# Altium footprint library custLib.PcbLib: 48 footprints (part 3 of 3)
Each footprint in its own frame and in the unit in brackets; x right, y up, seen from the top. Pads: shape width x height; smd on the part's side, far side on the other; paste and mask are expansions set on the pad; w line width, h text height; cw(c..) or ccw(c..) is an arc to the next point about the centre after c.
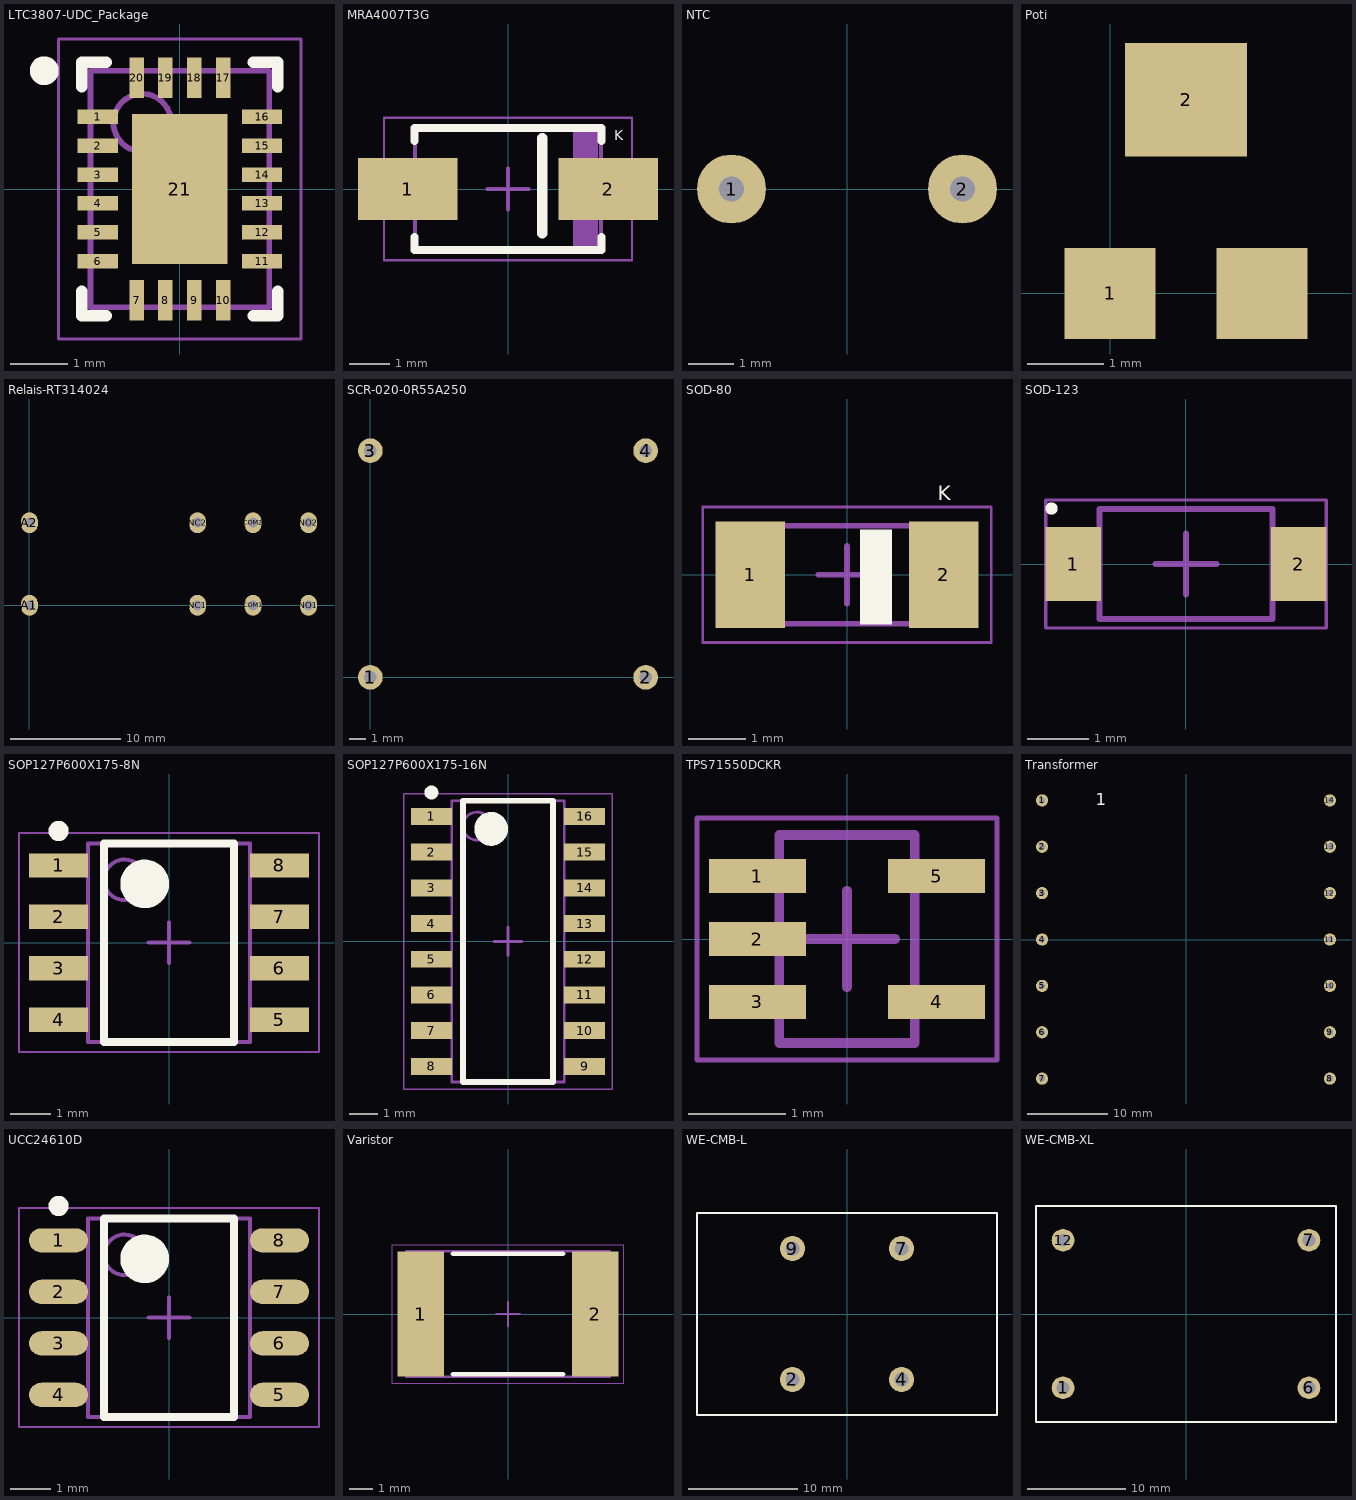
[diagram p2: the footprints below, top view; thin cyan lines are the x and y axes]

## LTC3807-UDC_Package [mm] "QFN, 20-Leads, Body 3,00x4,00mm, Pitch 0,50mm, Thermal Pad 1,50x2,60mm, IPC Medium Density"
height 0.75
pads (21):
  rect 0.7x0.25 smd: 1(-1.425,1.25) 2(-1.425,0.75) 3(-1.425,0.25) 4(-1.425,-0.25) 5(-1.425,-0.75) 6(-1.425,-1.25) 11(1.425,-1.25) 12(1.425,-0.75) 13(1.425,-0.25) 14(1.425,0.25) 15(1.425,0.75) 16(1.425,1.25)
  rect 0.25x0.7 smd: 7(-0.75,-1.925) 8(-0.25,-1.925) 9(0.25,-1.925) 10(0.75,-1.925) 17(0.75,1.925) 18(0.25,1.925) 19(-0.25,1.925) 20(-0.75,1.925)
  rect 1.65x2.6 smd: 21(0,0)
Top Overlay:
  circle w0.25: c-2.35,2.05 r0.125
  lines w0.2: -1.7,-1.775 -1.7,-2.2 -1.275,-2.2 ; -1.7,1.775 -1.7,2.2 -1.275,2.2 ; 1.275,-2.2 1.7,-2.2 1.7,-1.775 ; 1.275,2.2 1.7,2.2 1.7,1.775
Mechanical 13:
  circle w0.1: c-0.65,1.15 r0.5
  lines w0.1: -1.55,-2.05 1.55,-2.05 1.55,2.05 -1.55,2.05 -1.55,-2.05
Mechanical 15:
  lines w0.05: -2.1,-2.6 2.1,-2.6 2.1,2.6 -2.1,2.6 -2.1,-2.6
  lines w0.1: -0.5,0 0.5,0 ; 0,-0.5 0,0.5
3D body: height 0.75, standoff 0, extent -1.55,-2.05 1.55,2.05

## MRA4007T3G [mm] "Molded Diode, 2-Leads, Body 4,31x2,61mm, IPC Medium Density"
height 2.1
pads (2):
  rect 2.45x1.53 smd: 1(-2.46,0)
  rect 2.45x1.52 smd: 2(2.46,0)
Top Overlay:
  lines w0.2: -2.3,-1.175 -2.3,-1.5 2.3,-1.5 2.3,-1.175 ; -2.3,1.175 -2.3,1.5 2.3,1.5 2.3,1.175
  lines w0.254: 0.838,-1.092 0.838,1.245
  text "K" at 2.616,1.194 h0.25
Mechanical 13:
  rectangle: 1.6,-1.472 2.215,1.448
  lines w0.1: -2.285,-1.46 -2.285,1.46 2.285,1.46 2.285,-1.46 -2.285,-1.46
Mechanical 15:
  lines w0.05: -3.05,-1.75 -3.05,1.75 3.05,1.75 3.05,-1.75 -3.05,-1.75
  lines w0.1: -0.5,0 0.5,0 ; 0,-0.5 0,0.5
3D body: height 2.1, standoff 0, extent -2.285,-1.46 2.285,1.46

## NTC [mm]
pads (2):
  round 1.524 hole 0.55: 1(-2.55,0) 2(2.55,0)
3D body: height 12.5, standoff 2.5, extent -5,-2.667 5,2.333
3D body: height 7.5, standoff 0, extent -2.798,-0.249 -2.3,0.25
3D body: height 7.5, standoff 0, extent 2.302,-0.249 2.8,0.25
3D body: height 7.5, standoff 0, extent 2.302,-0.249 2.8,0.25

## Poti [mm]
pads (3):
  rect 1.2x1.2 smd: 1(0,0) ""(2,0)
  rect 1.6x1.5 smd: 2(1,2.55)

## Relais-RT314024 [mm] "TE-RT314024, Relais 16A-24V"
pads (8):
  oval 1.524x1.9 hole 0.9: A1(0,0) A2(0,7.5) COM1(20.3,0) COM2(20.3,7.5) NC1(15.26,0) NC2(15.26,7.5) NO1(25.34,0) NO2(25.34,7.5)
3D body: height 15.7, standoff 0, extent -2.35,-2.52 27.86,10.02

## SCR-020-0R55A250 [mil] "Trafo 2x25mH, 2amp"
pads (4):
  round 60 hole 30: 1(0,0) 2(669.29,0) 3(0,551.18) 4(669.29,551.18)
3D body: height 78.74, standoff 0, extent -236.22,-295.12 905,846.3
3D body: height 10, standoff 0, extent 370,260 370,260
3D body: height 905.51, standoff 78.74, extent -236.22,-295.12 905.52,846.3

## SOD-80 [mm] "MELF Diode, 2-Leads, Body 3,50x1,65mm, IPC Medium Density"
height 1.7
pads (2):
  rect 1.2x1.85 smd: 1(-1.675,0) 2(1.675,0)
Top Overlay:
  rectangle: 0.229,-0.863 0.779,0.787
  text "K" at 1.575,1.295 h0.25
Mechanical 13:
  lines w0.1: -1.85,-0.85 -1.85,0.85 1.85,0.85 1.85,-0.85 -1.85,-0.85
Mechanical 15:
  lines w0.05: -2.5,-1.175 -2.5,1.175 2.5,1.175 2.5,-1.175 -2.5,-1.175
  lines w0.1: -0.5,0 0.5,0 ; 0,-0.5 0,0.5
3D body "DIOMELF3516N.step": height 1.65, standoff 0.01, extent -1.75,-0.823 1.75,0.823

## SOD-123 [mm] "SODFL, 2-Leads, Body 1,60x3,71mm, IPC Medium Density"
height 1.17
pads (2):
  rect 0.91x1.22 smd: 1(-1.85,0) 2(1.85,0)
Top Overlay:
  circle w0.1: c-2.205,0.91 r0.05
Mechanical 13:
  lines w0.1: -1.42,-0.9 -1.42,0.9 1.42,0.9 1.42,-0.9 -1.42,-0.9
Mechanical 15:
  lines w0.05: -2.3,-1.05 -2.3,1.05 2.3,1.05 2.3,-1.05 -2.3,-1.05
  lines w0.1: -0.5,0 0.5,0 ; 0,-0.5 0,0.5
3D body: height 1.17, standoff 0, extent -1.42,-0.9 1.42,0.9

## SOP127P600X175-8N [mm] "SOP, 8-Leads, Body 4,85x3,90mm, Pitch 1,27mm, IPC Medium Density"
height 1.75
pads (8):
  rect 1.45x0.6 smd: 1(-2.725,1.905) 2(-2.725,0.635) 3(-2.725,-0.635) 4(-2.725,-1.905) 5(2.725,-1.905) 6(2.725,-0.635) 7(2.725,0.635) 8(2.725,1.905)
Top Overlay:
  circle w0.25: c-2.725,2.755 r0.125
  circle w0.6: c-0.6,1.45 r0.3
  lines w0.2: -1.6,-2.45 -1.6,2.45 1.6,2.45 1.6,-2.45 -1.6,-2.45
Mechanical 13:
  circle w0.1: c-1.1,1.55 r0.5
  lines w0.1: -2,-2.45 -2,2.45 2,2.45 2,-2.45 -2,-2.45
Mechanical 15:
  lines w0.05: -3.7,-2.7 -3.7,2.7 3.7,2.7 3.7,-2.7 -3.7,-2.7
  lines w0.1: -0.5,0 0.5,0 ; 0,-0.5 0,0.5
3D body: height 1.75, standoff 0.1, extent -2,-2.45 2,2.45

## SOP127P600X175-16N [mm] "SOP, 16-Leads, Body 9,90x3,90mm, Pitch 1,27mm, IPC Medium Density"
height 1.75
pads (16):
  rect 1.45x0.6 smd: 1(-2.725,4.445) 2(-2.725,3.175) 3(-2.725,1.905) 4(-2.725,0.635) 5(-2.725,-0.635) 6(-2.725,-1.905) 7(-2.725,-3.175) 8(-2.725,-4.445) 9(2.725,-4.445) 10(2.725,-3.175) 11(2.725,-1.905) 12(2.725,-0.635) 13(2.725,0.635) 14(2.725,1.905) 15(2.725,3.175) 16(2.725,4.445)
Top Overlay:
  circle w0.25: c-2.725,5.295 r0.125
  circle w0.6: c-0.6,4 r0.3
  lines w0.2: -1.6,-5 -1.6,5 1.6,5 1.6,-5 -1.6,-5
Mechanical 13:
  circle w0.1: c-1.1,4.1 r0.5
  lines w0.1: -2,-5 -2,5 2,5 2,-5 -2,-5
Mechanical 15:
  lines w0.05: -3.7,-5.25 -3.7,5.25 3.7,5.25 3.7,-5.25 -3.7,-5.25
  lines w0.1: -0.5,0 0.5,0 ; 0,-0.5 0,0.5
3D body: height 1.75, standoff 0.1, extent -2,-5 2,5

## TPS71550DCKR [mm] "SOTFL, 5-Leads, Body 2,00x2,10mm, Pitch 0,65mm, IPC Medium Density"
height 1.1
pads (5):
  rect 1x0.35 smd: 1(-0.925,0.65) 2(-0.925,0) 3(-0.925,-0.65) 4(0.925,-0.65) 5(0.925,0.65)
Mechanical 13:
  lines w0.1: -0.7,-1.075 0.7,-1.075 0.7,1.075 -0.7,1.075 -0.7,-1.075
Mechanical 15:
  lines w0.05: -1.55,-1.25 1.55,-1.25 1.55,1.25 -1.55,1.25 -1.55,-1.25
  lines w0.1: -0.5,0 0.5,0 ; 0,-0.5 0,0.5
3D body: height 1.1, standoff 0, extent -0.7,-1.075 0.7,1.075

## Transformer [mil]
pads (14):
  round 60 hole 30: 1(-708.66,685.04) 2(-708.66,456.69) 3(-708.66,228.35) 4(-708.66,0) 5(-708.66,-228.35) 6(-708.66,-456.69) 7(-708.66,-685.04) 8(708.66,-685.04) 9(708.66,-456.69) 10(708.66,-228.35) 11(708.66,0) 12(708.66,228.35) 13(708.66,456.69) 14(708.66,685.04)
Top Overlay:
  text "1" at -445,660 h60
3D body: height 1181.1, standoff 0, extent -708.66,-860 710,846.46

## UCC24610D [mm] "UCC24610D, SOIC"
pads (8):
  oval 1.45x0.6 smd: 1(-2.725,1.905) 2(-2.725,0.635) 3(-2.725,-0.635) 4(-2.725,-1.905) 5(2.725,-1.905) 6(2.725,-0.635) 7(2.725,0.635) 8(2.725,1.905)
Top Overlay:
  circle w0.6: c-0.6,1.45 r0.3
  circle w0.25: c-2.725,2.755 r0.125
  lines w0.2: -1.6,-2.45 1.6,-2.45 1.6,2.45 -1.6,2.45 -1.6,-2.45
Mechanical 13:
  circle w0.1: c-1.1,1.55 r0.5
  lines w0.1: -2,-2.45 2,-2.45 2,2.45 -2,2.45 -2,-2.45
Mechanical 15:
  lines w0.05: -3.7,-2.7 3.7,-2.7 3.7,2.7 -3.7,2.7 -3.7,-2.7
  lines w0.1: -0.5,0 0.5,0 ; 0,-0.5 0,0.5
3D body: height 1.75, standoff 0.1, extent -2,-2.45 2,2.45

## Varistor [mm] "Chip Resistor, 2-Leads, Body 8,21x4,98mm, IPC Medium Density"
height 2.03
pads (2):
  rect 1.95x5.25 smd: 1(-3.65,0) 2(3.65,0)
Top Overlay:
  lines w0.2: -2.3,-2.525 2.3,-2.525 ; -2.3,2.525 2.3,2.525
Mechanical 13:
  lines w0.1: -4.255,-2.63 4.255,-2.63 4.255,2.63 -4.255,2.63 -4.255,-2.63
Mechanical 15:
  lines w0.05: -4.85,-2.9 4.85,-2.9 4.85,2.9 -4.85,2.9 -4.85,-2.9
  lines w0.1: -0.5,0 0.5,0 ; 0,-0.5 0,0.5
3D body: height 2.03, standoff 0, extent 3.415,-2.63 4.255,2.63
3D body: height 2.03, standoff 0, extent -4.255,-2.63 -3.415,2.63
3D body: height 2.03, standoff 0, extent -3.415,-2.63 3.415,2.63

## WE-CMB-L [mm] "THT Inductor, 4-Leads, Body 27.5 x 18.5 mm"
height 33
pads (4):
  round 2.3 hole 1.3: 2(-5,-6) 4(5,-6) 7(5,6) 9(-5,6)
Top Overlay:
  lines w0.2: -13.75,-9.25 -13.75,9.25 13.75,9.25 13.75,-9.25 -13.75,-9.25
Mechanical 1:
  lines w0.1: -13.75,-9.25 -13.75,9.25 13.75,9.25 13.75,-9.25 -13.75,-9.25
3D body "744824407.stp": height 33, standoff -5, extent -13.75,-9.3 13.75,9.2

## WE-CMB-XL [mm] "THT Inductor, 4-Leads, Body 30.0 x 21.0 mm"
height 35
pads (4):
  round 2.3 hole 1.3: 1(-12.5,-7.5) 6(12.5,-7.5) 7(12.5,7.5) 12(-12.5,7.5)
Top Overlay:
  lines w0.2: -15.25,-11 15.25,-11 15.25,11 -15.25,11 -15.25,-11
Mechanical 1:
  lines w0.1: -15.25,-11 15.25,-11 15.25,11 -15.25,11 -15.25,-11
3D body "7448258022.stp": height 35.13, standoff -5, extent -15,-10.5 15,10.5